# Altium schematic symbol library stm32f103c8t6最小系统.SchLib: 5 symbols
Pins are listed as number, name and electrical type; pins without a type are passive.

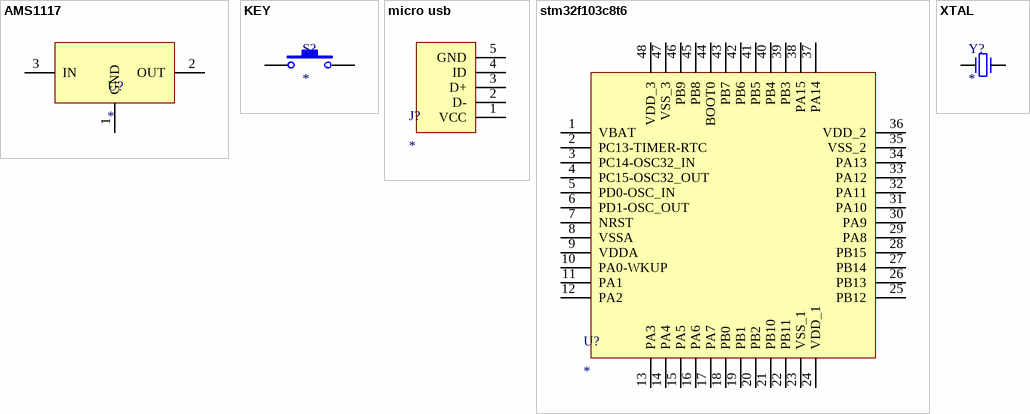
[diagram p0: symbols AMS1117 to XTAL]

## AMS1117
designator U?
AMS1117
footprint AMS1117
pins: 1 GND (power), 2 OUT (power), 3 IN (power)

## KEY
designator S?
KEY
footprint KEY
pins: 1 (power), 2 (power)

## micro usb
designator J?
micro usb
footprint micro usb
pins: 1 VCC, 2 D-, 3 D+, 4 ID, 5 GND

## stm32f103c8t6
designator U?
stm32f103c8t6
footprint stm32f103c8t6 (TSQFP, 48-Leads, Body 7.00x7.00mm, Pitch 0.50mm, IPC Medium Density)
pins: 1 VBAT (power), 2 PC13-TIMER-RTC (power), 3 PC14-OSC32_IN (power), 4 PC15-OSC32_OUT (power), 5 PD0-OSC_IN (power), 6 PD1-OSC_OUT (power), 7 NRST (power), 8 VSSA (power), 9 VDDA (power), 10 PA0-WKUP (power), 11 PA1 (power), 12 PA2 (power), 13 PA3 (power), 14 PA4 (power), 15 PA5 (power), 16 PA6 (power), 17 PA7 (power), 18 PB0 (power), 19 PB1 (power), 20 PB2 (power), 21 PB10 (power), 22 PB11 (power), 23 VSS_1 (power), 24 VDD_1 (power), 25 PB12 (power), 26 PB13 (power), 27 PB14 (power), 28 PB15 (power), 29 PA8 (power), 30 PA9 (power), 31 PA10 (power), 32 PA11 (power), 33 PA12 (power), 34 PA13 (power), 35 VSS_2 (power), 36 VDD_2 (power), 37 PA14 (power), 38 PA15 (power), 39 PB3 (power), 40 PB4 (power), 41 PB5 (power), 42 PB6 (power), 43 PB7 (power), 44 BOOT0 (power), 45 PB8 (power), 46 PB9 (power), 47 VSS_3 (power), 48 VDD_3 (power)

## XTAL
designator Y?
XTAL
footprint XTAL (晶振)
pins: 1 (power), 2 (power)